# EAGLE library part GKRAM_HORY (library 029000100  -  gKEagleLibrary)
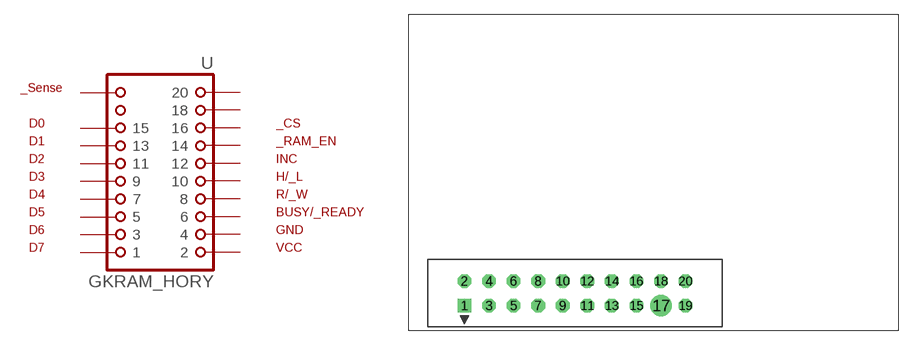
[diagram p17: symbol with the pads of GKRAM_HORY; footprint GKRAM_HORY]

Designator prefix -

## GKRAM_HORY  [GKRAM_HORY]
1  1  pas
2  2  pas
3  3  pas
4  4  pas
5  5  pas
6  6  pas
7  7  pas
8  8  pas
9  9  pas
10  10  pas
11  11  pas
12  12  pas
13  13  pas
14  14  pas
15  15  pas
16  16  pas
17  17  nc
18  18  pas
19  19  pas
20  20  pas

## Footprint GKRAM_HORY (pad centres in mm)
drill 0.914 square: 1 5.842,2.54
drill 0.914 octagon: 2 5.842,5.08; 3 8.382,2.54; 4 8.382,5.08; 5 10.922,2.54; 6 10.922,5.08; 7 13.462,2.54; 8 13.462,5.08; 9 16.002,2.54; 10 16.002,5.08; 11 18.542,2.54; 12 18.542,5.08; 13 21.082,2.54; 14 21.082,5.08; 15 23.622,2.54; 16 23.622,5.08; 18 26.162,5.08; 19 28.702,2.54; 20 28.702,5.08
drill 0.914 pad 2.184: 17 26.162,2.54